# EAGLE library part BUF634U/2K5 (library texas-instruments-jqi)
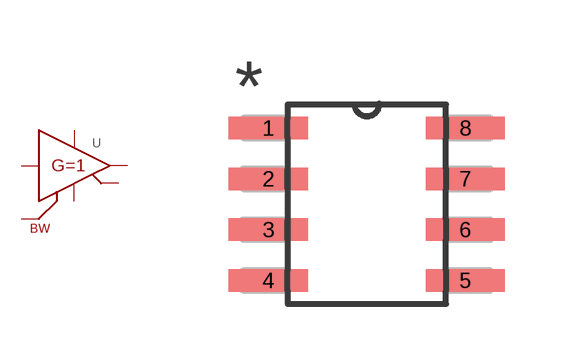
[diagram p1: symbol with the pads of D8; footprint D8]

Designator prefix U

## BUF634U/2K5 (COPYRIGHT: Copyright C 2015 Accelerated Designs. All rights reserved; FAMILY: Unknown; MANUFACTURER_NAME: Texas Instruments; MANUFACTURER_PART_NUMBER: BUF634U; RSPARTNUMBER: 288676; SECTION: Unknown; VENDOR: Texas Instruments)  [D8]
1  BW  in
2  NC  pas
3  VIN  in
4  V-  pwr
5  NC  pas
6  VO  out
7  V+  pwr
8  NC  pas

## Footprint D8 (pad centres in mm)
smd 1.981 x 0.559: 1 -2.464,1.905; 2 -2.464,0.635; 3 -2.464,-0.635; 4 -2.464,-1.905; 5 2.464,-1.905; 6 2.464,-0.635; 7 2.464,0.635; 8 2.464,1.905